# Altium footprint library st_ecopack_qfn50p600x600x90-32n.PcbLib: 1 footprints
Each footprint in its own frame and in the unit in brackets; x right, y up, seen from the top. Pads: shape width x height; smd on the part's side, far side on the other; paste and mask are expansions set on the pad; w line width, h text height; cw(c..) or ccw(c..) is an arc to the next point about the centre after c.
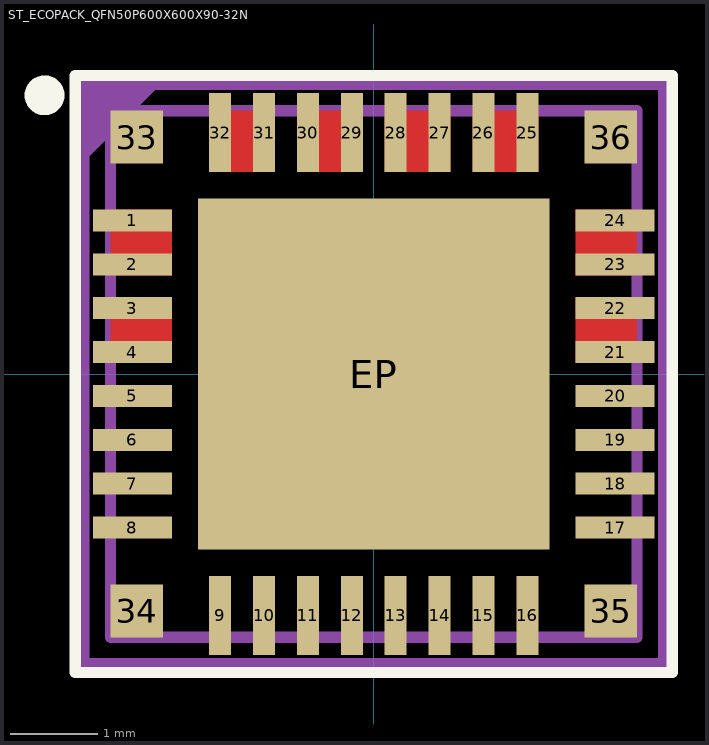
[diagram p0: the footprint, top view; thin cyan lines are the x and y axes]

## ST_ECOPACK_QFN50P600X600X90-32N [mm]
height 1
pads (37):
  rect 0.9x0.25 smd: 1(-2.75,1.75) 2(-2.75,1.25) 3(-2.75,0.75) 4(-2.75,0.25) 5(-2.75,-0.25) 6(-2.75,-0.75) 7(-2.75,-1.25) 8(-2.75,-1.75) 17(2.75,-1.75) 18(2.75,-1.25) 19(2.75,-0.75) 20(2.75,-0.25) 21(2.75,0.25) 22(2.75,0.75) 23(2.75,1.25) 24(2.75,1.75)
  rect 0.25x0.9 smd: 9(-1.75,-2.75) 10(-1.25,-2.75) 11(-0.75,-2.75) 12(-0.25,-2.75) 13(0.25,-2.75) 14(0.75,-2.75) 15(1.25,-2.75) 16(1.75,-2.75) 25(1.75,2.75) 26(1.25,2.75) 27(0.75,2.75) 28(0.25,2.75) 29(-0.25,2.75) 30(-0.75,2.75) 31(-1.25,2.75) 32(-1.75,2.75)
  rect 0.6x0.6 smd: 33(-2.7,2.7) 34(-2.7,-2.7) 35(2.7,-2.7) 36(2.7,2.7)
  rect 4x4 smd: EP(0,0)
Top Layer:
  rectangle: -3,1.125 -2.3,1.875
  rectangle: -3,0.125 -2.3,0.875
  region: 3,0.875 2.3,0.875 2.3,0.125 3,0.125
  region: 3,1.875 2.3,1.875 2.3,1.125 3,1.125
  region: 1.125,3 1.125,2.3 1.875,2.3 1.875,3
  region: 0.125,3 0.125,2.3 0.875,2.3 0.875,3
  region: -0.875,3 -0.875,2.3 -0.125,2.3 -0.125,3
  region: -1.875,3 -1.875,2.3 -1.125,2.3 -1.125,3
Top Overlay:
  circle w0.254: c-3.75,3.175 r0.1
  lines w0.127: -3.4,-3.4 3.4,-3.4 3.4,3.4 -3.4,3.4 -3.4,-3.4
Top 3D Body (Mech13):
  lines w0.127: -3,-3 -3,3 3,3 3,-3 -3,-3
Top Courtyard:
  region: -3.3,3.3 -2.425,3.3 -3.3,2.425
  lines w0.127: -3.3,-3.3 3.3,-3.3 3.3,3.3 -3.3,3.3 -3.3,-3.3
Top Designator:
  text ".Designator" at -1.28,-0.18 h0.6
3D body: height 1, standoff 0, extent -3,-3 3,3